# Altium schematic symbol library MP9486.SchLib: 1 symbol
Pins are listed as number, name and electrical type; pins without a type are passive.

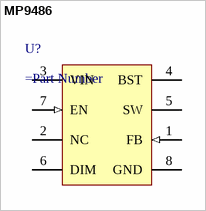
[diagram p0: symbol MP9486]

## MP9486
designator U?
=Description
pins: 1 FB (in), 2 NC, 3 VIN (power), 4 BST, 5 SW (power), 6 DIM, 7 EN (in), 8 GND (power)